# Altium footprint library altera-cyclone-II.PCBLIB: 7 footprints (part 2 of 2)
Each footprint in its own frame and in the unit in brackets; x right, y up, seen from the top. Pads: shape width x height; smd on the part's side, far side on the other; paste and mask are expansions set on the pad; w line width, h text height; cw(c..) or ccw(c..) is an arc to the next point about the centre after c.
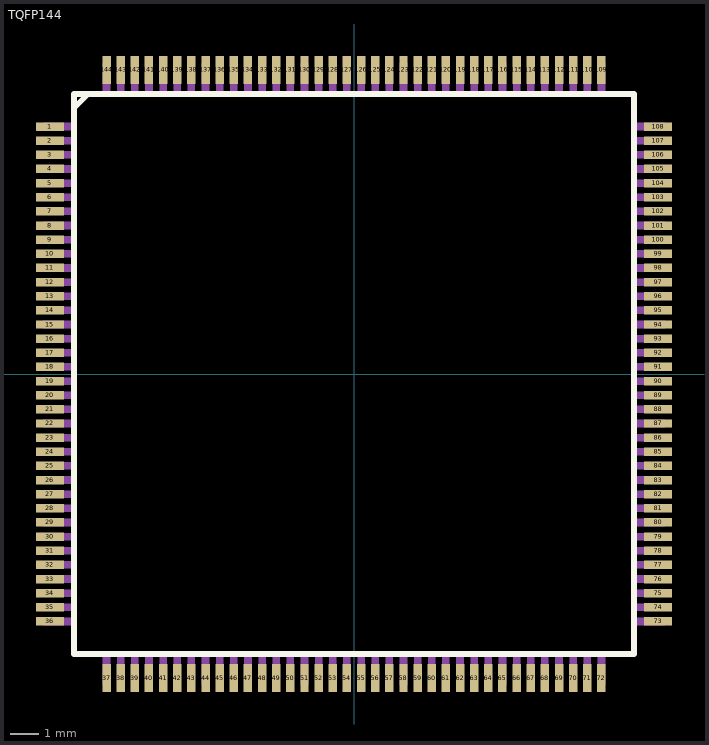
[diagram p1: the footprint, top view; thin cyan lines are the x and y axes]

## TQFP144 [mm]
pads (144):
  rect 1x0.3 smd: 1(-10.75,8.75) 2(-10.75,8.25) 3(-10.75,7.75) 4(-10.75,7.25) 5(-10.75,6.75) 6(-10.75,6.25) 7(-10.75,5.75) 8(-10.75,5.25) 9(-10.75,4.75) 10(-10.75,4.25) 11(-10.75,3.75) 12(-10.75,3.25) 13(-10.75,2.75) 14(-10.75,2.25) 15(-10.75,1.75) 16(-10.75,1.25) 17(-10.75,0.75) 18(-10.75,0.25) 19(-10.75,-0.25) 20(-10.75,-0.75) 21(-10.75,-1.25) 22(-10.75,-1.75) 23(-10.75,-2.25) 24(-10.75,-2.75) 25(-10.75,-3.25) 26(-10.75,-3.75) 27(-10.75,-4.25) 28(-10.75,-4.75) 29(-10.75,-5.25) 30(-10.75,-5.75) 31(-10.75,-6.25) 32(-10.75,-6.75) 33(-10.75,-7.25) 34(-10.75,-7.75) 35(-10.75,-8.25) 36(-10.75,-8.75) 73(10.75,-8.75) 74(10.75,-8.25) 75(10.75,-7.75) 76(10.75,-7.25) 77(10.75,-6.75) 78(10.75,-6.25) 79(10.75,-5.75) 80(10.75,-5.25) 81(10.75,-4.75) 82(10.75,-4.25) 83(10.75,-3.75) 84(10.75,-3.25) 85(10.75,-2.75) 86(10.75,-2.25) 87(10.75,-1.75) 88(10.75,-1.25) 89(10.75,-0.75) 90(10.75,-0.25) 91(10.75,0.25) 92(10.75,0.75) 93(10.75,1.25) 94(10.75,1.75) 95(10.75,2.25) 96(10.75,2.75) 97(10.75,3.25) 98(10.75,3.75) 99(10.75,4.25) 100(10.75,4.75) 101(10.75,5.25) 102(10.75,5.75) 103(10.75,6.25) 104(10.75,6.75) 105(10.75,7.25) 106(10.75,7.75) 107(10.75,8.25) 108(10.75,8.75)
  rect 0.3x1 smd: 37(-8.75,-10.75) 38(-8.25,-10.75) 39(-7.75,-10.75) 40(-7.25,-10.75) 41(-6.75,-10.75) 42(-6.25,-10.75) 43(-5.75,-10.75) 44(-5.25,-10.75) 45(-4.75,-10.75) 46(-4.25,-10.75) 47(-3.75,-10.75) 48(-3.25,-10.75) 49(-2.75,-10.75) 50(-2.25,-10.75) 51(-1.75,-10.75) 52(-1.25,-10.75) 53(-0.75,-10.75) 54(-0.25,-10.75) 55(0.25,-10.75) 56(0.75,-10.75) 57(1.25,-10.75) 58(1.75,-10.75) 59(2.25,-10.75) 60(2.75,-10.75) 61(3.25,-10.75) 62(3.75,-10.75) 63(4.25,-10.75) 64(4.75,-10.75) 65(5.25,-10.75) 66(5.75,-10.75) 67(6.25,-10.75) 68(6.75,-10.75) 69(7.25,-10.75) 70(7.75,-10.75) 71(8.25,-10.75) 72(8.75,-10.75) 109(8.75,10.75) 110(8.25,10.75) 111(7.75,10.75) 112(7.25,10.75) 113(6.75,10.75) 114(6.25,10.75) 115(5.75,10.75) 116(5.25,10.75) 117(4.75,10.75) 118(4.25,10.75) 119(3.75,10.75) 120(3.25,10.75) 121(2.75,10.75) 122(2.25,10.75) 123(1.75,10.75) 124(1.25,10.75) 125(0.75,10.75) 126(0.25,10.75) 127(-0.25,10.75) 128(-0.75,10.75) 129(-1.25,10.75) 130(-1.75,10.75) 131(-2.25,10.75) 132(-2.75,10.75) 133(-3.25,10.75) 134(-3.75,10.75) 135(-4.25,10.75) 136(-4.75,10.75) 137(-5.25,10.75) 138(-5.75,10.75) 139(-6.25,10.75) 140(-6.75,10.75) 141(-7.25,10.75) 142(-7.75,10.75) 143(-8.25,10.75) 144(-8.75,10.75)
Top Overlay:
  lines w0.203: -9.898,9.4 -9.4,9.898 ; -9.898,-9.898 9.898,-9.898 9.898,9.898 -9.898,9.898 -9.898,-9.898
Mechanical 16:
  rectangle: -11,8.615 -10,8.885
  rectangle: -11,8.115 -10,8.385
  rectangle: -11,7.615 -10,7.885
  rectangle: -11,7.115 -10,7.385
  rectangle: -11,6.615 -10,6.885
  rectangle: -11,6.115 -10,6.385
  rectangle: -11,5.615 -10,5.885
  rectangle: -11,5.115 -10,5.385
  rectangle: -11,4.615 -10,4.885
  rectangle: -11,4.115 -10,4.385
  rectangle: -11,3.615 -10,3.885
  rectangle: -11,3.115 -10,3.385
  rectangle: -11,2.615 -10,2.885
  rectangle: -11,2.115 -10,2.385
  rectangle: -11,1.615 -10,1.885
  rectangle: -11,1.115 -10,1.385
  rectangle: -11,0.615 -10,0.885
  rectangle: -11,0.115 -10,0.385
  rectangle: -11,-0.385 -10,-0.115
  rectangle: -11,-0.885 -10,-0.615
  rectangle: -11,-1.385 -10,-1.115
  rectangle: -11,-1.885 -10,-1.615
  rectangle: -11,-2.385 -10,-2.115
  rectangle: -11,-2.885 -10,-2.615
  rectangle: -11,-3.385 -10,-3.115
  rectangle: -11,-3.885 -10,-3.615
  rectangle: -11,-4.385 -10,-4.115
  rectangle: -11,-4.885 -10,-4.615
  rectangle: -11,-5.385 -10,-5.115
  rectangle: -11,-5.885 -10,-5.615
  rectangle: -11,-6.385 -10,-6.115
  rectangle: -11,-6.885 -10,-6.615
  rectangle: -11,-7.385 -10,-7.115
  rectangle: -11,-7.885 -10,-7.615
  rectangle: -11,-8.385 -10,-8.115
  rectangle: -11,-8.885 -10,-8.615
  rectangle: -8.885,-11 -8.615,-10
  rectangle: -8.385,-11 -8.115,-10
  rectangle: -7.885,-11 -7.615,-10
  rectangle: -7.385,-11 -7.115,-10
  rectangle: -6.885,-11 -6.615,-10
  rectangle: -6.385,-11 -6.115,-10
  rectangle: -5.885,-11 -5.615,-10
  rectangle: -5.385,-11 -5.115,-10
  rectangle: -4.885,-11 -4.615,-10
  rectangle: -4.385,-11 -4.115,-10
  rectangle: -3.885,-11 -3.615,-10
  rectangle: -3.385,-11 -3.115,-10
  rectangle: -2.885,-11 -2.615,-10
  rectangle: -2.385,-11 -2.115,-10
  rectangle: -1.885,-11 -1.615,-10
  rectangle: -1.385,-11 -1.115,-10
  rectangle: -0.885,-11 -0.615,-10
  rectangle: -0.385,-11 -0.115,-10
  rectangle: 0.115,-11 0.385,-10
  rectangle: 0.615,-11 0.885,-10
  rectangle: 1.115,-11 1.385,-10
  rectangle: 1.615,-11 1.885,-10
  rectangle: 2.115,-11 2.385,-10
  rectangle: 2.615,-11 2.885,-10
  rectangle: 3.115,-11 3.385,-10
  rectangle: 3.615,-11 3.885,-10
  rectangle: 4.115,-11 4.385,-10
  rectangle: 4.615,-11 4.885,-10
  rectangle: 5.115,-11 5.385,-10
  rectangle: 5.615,-11 5.885,-10
  rectangle: 6.115,-11 6.385,-10
  rectangle: 6.615,-11 6.885,-10
  rectangle: 7.115,-11 7.385,-10
  rectangle: 7.615,-11 7.885,-10
  rectangle: 8.115,-11 8.385,-10
  rectangle: 8.615,-11 8.885,-10
  rectangle: 10,-8.885 11,-8.615
  rectangle: 10,-8.385 11,-8.115
  rectangle: 10,-7.885 11,-7.615
  rectangle: 10,-7.385 11,-7.115
  rectangle: 10,-6.885 11,-6.615
  rectangle: 10,-6.385 11,-6.115
  rectangle: 10,-5.885 11,-5.615
  rectangle: 10,-5.385 11,-5.115
  rectangle: 10,-4.885 11,-4.615
  rectangle: 10,-4.385 11,-4.115
  rectangle: 10,-3.885 11,-3.615
  rectangle: 10,-3.385 11,-3.115
  rectangle: 10,-2.885 11,-2.615
  rectangle: 10,-2.385 11,-2.115
  rectangle: 10,-1.885 11,-1.615
  rectangle: 10,-1.385 11,-1.115
  rectangle: 10,-0.885 11,-0.615
  rectangle: 10,-0.385 11,-0.115
  rectangle: 10,0.115 11,0.385
  rectangle: 10,0.615 11,0.885
  rectangle: 10,1.115 11,1.385
  rectangle: 10,1.615 11,1.885
  rectangle: 10,2.115 11,2.385
  rectangle: 10,2.615 11,2.885
  rectangle: 10,3.115 11,3.385
  rectangle: 10,3.615 11,3.885
  rectangle: 10,4.115 11,4.385
  rectangle: 10,4.615 11,4.885
  rectangle: 10,5.115 11,5.385
  rectangle: 10,5.615 11,5.885
  rectangle: 10,6.115 11,6.385
  rectangle: 10,6.615 11,6.885
  rectangle: 10,7.115 11,7.385
  rectangle: 10,7.615 11,7.885
  rectangle: 10,8.115 11,8.385
  rectangle: 10,8.615 11,8.885
  rectangle: 8.615,10 8.885,11
  rectangle: 8.115,10 8.385,11
  rectangle: 7.615,10 7.885,11
  rectangle: 7.115,10 7.385,11
  rectangle: 6.615,10 6.885,11
  rectangle: 6.115,10 6.385,11
  rectangle: 5.615,10 5.885,11
  rectangle: 5.115,10 5.385,11
  rectangle: 4.615,10 4.885,11
  rectangle: 4.115,10 4.385,11
  rectangle: 3.615,10 3.885,11
  rectangle: 3.115,10 3.385,11
  rectangle: 2.615,10 2.885,11
  rectangle: 2.115,10 2.385,11
  rectangle: 1.615,10 1.885,11
  rectangle: 1.115,10 1.385,11
  rectangle: 0.615,10 0.885,11
  rectangle: 0.115,10 0.385,11
  rectangle: -0.385,10 -0.115,11
  rectangle: -0.885,10 -0.615,11
  rectangle: -1.385,10 -1.115,11
  rectangle: -1.885,10 -1.615,11
  rectangle: -2.385,10 -2.115,11
  rectangle: -2.885,10 -2.615,11
  rectangle: -3.385,10 -3.115,11
  rectangle: -3.885,10 -3.615,11
  rectangle: -4.385,10 -4.115,11
  rectangle: -4.885,10 -4.615,11
  rectangle: -5.385,10 -5.115,11
  rectangle: -5.885,10 -5.615,11
  rectangle: -6.385,10 -6.115,11
  rectangle: -6.885,10 -6.615,11
  rectangle: -7.385,10 -7.115,11
  rectangle: -7.885,10 -7.615,11
  rectangle: -8.385,10 -8.115,11
  rectangle: -8.885,10 -8.615,11